# Altium footprint library rcl.PCBLIB: 487 footprints (part 24 of 31)
Each footprint in its own frame and in the unit in brackets; x right, y up, seen from the top. Pads: shape width x height; smd on the part's side, far side on the other; paste and mask are expansions set on the pad; w line width, h text height; cw(c..) or ccw(c..) is an arc to the next point about the centre after c.
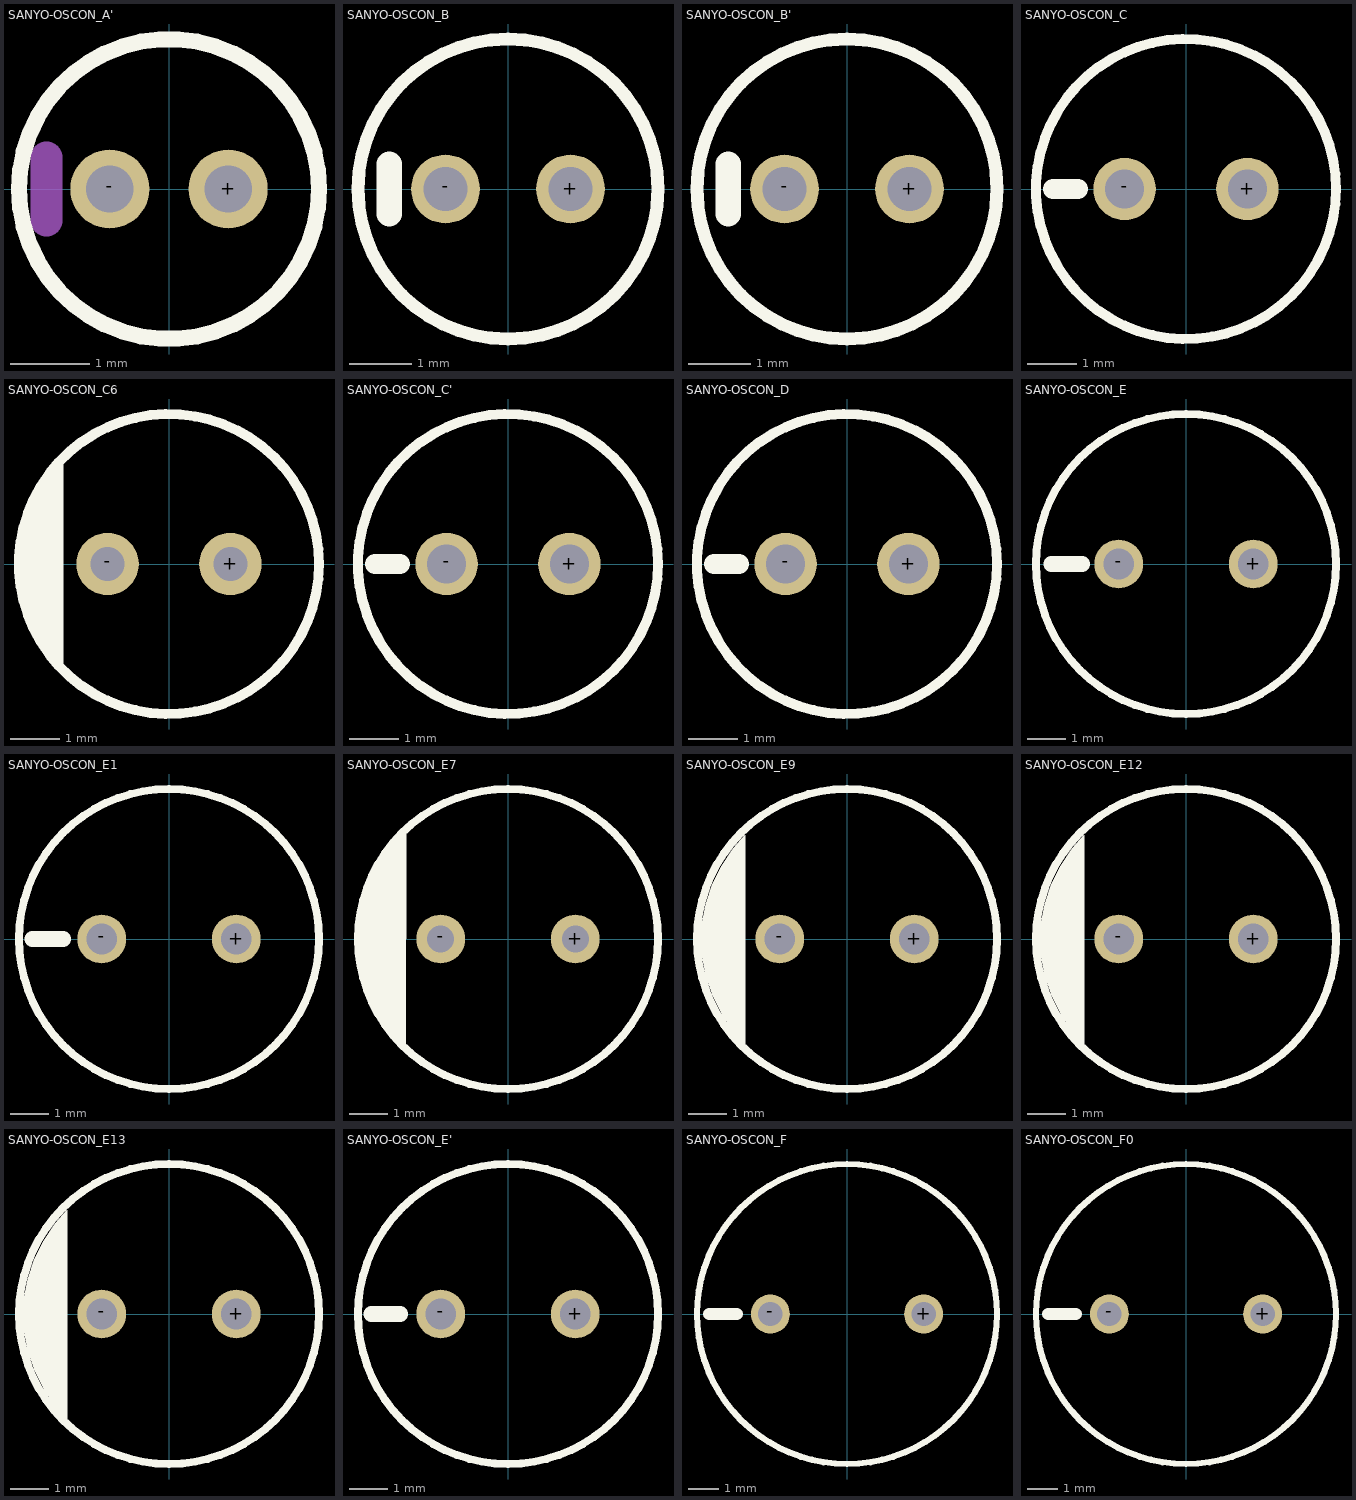
[diagram p23: the footprints below, top view; thin cyan lines are the x and y axes]

## SANYO-OSCON_A' [mm]
pads (2):
  round 1 hole 0.6: +(0.75,0) -(-0.75,0)
Top Overlay:
  circle w0.203: c0,0 r1.9
Mechanical 16:
  lines w0.406: -1.55,-0.4 -1.55,0.4

## SANYO-OSCON_B [mm]
pads (2):
  round 1.1 hole 0.7: +(1,0) -(-1,0)
Top Overlay:
  circle w0.203: c0,0 r2.4
  lines w0.406: -1.9,-0.4 -1.9,0.4

## SANYO-OSCON_B' [mm]
pads (2):
  round 1.1 hole 0.7: +(1,0) -(-1,0)
Top Overlay:
  circle w0.203: c0,0 r2.4
  lines w0.406: -1.9,-0.4 -1.9,0.4

## SANYO-OSCON_C [mil]
pads (2):
  round 50 hole 31.5: +(49.21,0) -(-49.21,0)
Top Overlay:
  circle w8: c0,0 r120.08
  lines w16: -106.3,0 -86.61,0

## SANYO-OSCON_C6 [mil]
pads (2):
  round 50 hole 27.56: +(49.21,0) -(-49.21,0)
Top Overlay:
  circle w8: c0,0 r120.08
  region: -84.65,82.68 -84.67,-82.7 -93.15,-72.77 -104.05,-54.99 -112.02,-35.73 -116.89,-15.45 -118.42,3.94 -118.21,3.94 -117.08,18.22 -112.67,36.63 -105.42,54.12 -95.53,70.26 -84.8,82.82

## SANYO-OSCON_C' [mil]
pads (2):
  round 50 hole 31.5: +(49.21,0) -(-49.21,0)
Top Overlay:
  circle w8: c0,0 r120.09
  lines w16: -106.3,0 -86.61,0

## SANYO-OSCON_D [mil]
pads (2):
  round 50 hole 31.5: +(49.21,0) -(-49.21,0)
Top Overlay:
  circle w8: c0,0 r120.08
  lines w16: -106.3,0 -86.61,0

## SANYO-OSCON_E [mil]
pads (2):
  round 50 hole 31.5: +(68.9,0) -(-68.9,0)
Top Overlay:
  circle w8: c0,0 r153.56
  lines w16: -137.8,0 -106.3,0

## SANYO-OSCON_E1 [mil]
pads (2):
  round 50 hole 31.5: +(68.9,0) -(-68.9,0)
Top Overlay:
  circle w8: c0,0 r153.54
  lines w16: -139.76,0 -108.27,0

## SANYO-OSCON_E7 [mil]
pads (2):
  round 50 hole 27.56: +(68.9,0) -(-68.9,0)
Top Overlay:
  circle w8: c0,0 r153.54
  region: -104.33,110.24 -104.44,-110.35 -116.7,-96.38 -129.15,-77.73 -139.07,-57.62 -146.28,-36.38 -150.66,-14.39 -151.6,0 -151.62,0 -150.63,15.11 -146.32,36.79 -139.21,57.71 -129.44,77.53 -117.16,95.91 -104.47,110.38

## SANYO-OSCON_E9 [mil]
pads (2):
  round 50 hole 31.5: +(68.9,0) -(-68.9,0)
Top Overlay:
  circle w8: c0,0 r153.54
  region: -104.33,106.3 -104.4,-108.34 -115.42,-95.77 -127.61,-77.52 -137.32,-57.84 -144.37,-37.06 -148.65,-15.54 -149.67,0 -148.69,14.91 -144.54,35.79 -137.69,55.95 -128.28,75.04 -116.45,92.75 -104.46,106.42

## SANYO-OSCON_E12 [mil]
pads (2):
  round 50 hole 31.5: +(68.9,0) -(-68.9,0)
Top Overlay:
  circle w8: c0,0 r153.54
  region: -104.33,106.3 -104.4,-108.34 -115.42,-95.77 -127.61,-77.52 -137.32,-57.84 -144.37,-37.06 -148.65,-15.54 -149.67,0 -148.69,14.91 -144.54,35.79 -137.69,55.95 -128.28,75.04 -116.45,92.75 -104.46,106.42

## SANYO-OSCON_E13 [mil]
pads (2):
  round 50 hole 31.5: +(68.9,0) -(-68.9,0)
Top Overlay:
  circle w8: c0,0 r153.54
  region: -104.33,106.3 -104.4,-108.34 -115.42,-95.77 -127.61,-77.52 -137.32,-57.84 -144.37,-37.06 -148.65,-15.54 -149.67,0 -148.69,14.91 -144.54,35.79 -137.69,55.95 -128.28,75.04 -116.45,92.75 -104.46,106.42

## SANYO-OSCON_E' [mil]
pads (2):
  round 50 hole 31.5: +(68.9,0) -(-68.9,0)
Top Overlay:
  circle w8: c0,0 r153.54
  lines w16: -139.76,0 -110.24,0

## SANYO-OSCON_F [mil]
pads (2):
  round 50 hole 31.5: +(98.43,0) -(-98.43,0)
Top Overlay:
  circle w8: c0,0 r192.91
  lines w16: -177.17,0 -141.73,0

## SANYO-OSCON_F0 [mil]
pads (2):
  round 50 hole 31.5: +(98.43,0) -(-98.43,0)
Top Overlay:
  circle w8: c0,0 r192.91
  lines w16: -177.17,0 -141.73,0